# Altium schematic symbol library OLC_CON.SchLib: 1 symbol
Pins are listed as number, name and electrical type; pins without a type are passive.

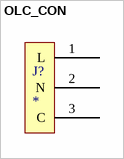
[diagram p0: symbol OLC_CON]

## OLC_CON
designator J?
pins: 1 L, 2 N, 3 C